# Altium schematic symbol library 2EDN8524FXTMA1.Schlib: 1 symbol
Pins are listed as number, name and electrical type; pins without a type are passive.

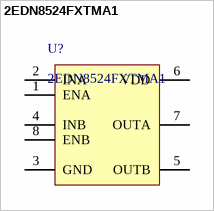
[diagram p0: symbol 2EDN8524FXTMA1]

## 2EDN8524FXTMA1
designator U?
Low-Side Gate Driver IC Non-Inverting PG-DSO-8
pins: 1 ENA, 2 INA, 3 GND, 4 INB, 5 OUTB, 6 VDD, 7 OUTA, 8 ENB